# EAGLE library part ATX_CONNECTOR (library 1dah)
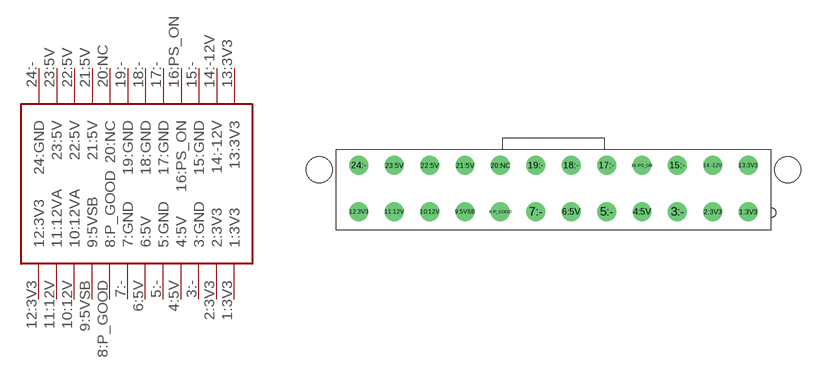
[diagram p51: symbol with the pads of ATX_CONNECTOR; footprint ATX_CONNECTOR]

Designator prefix -

## ATX_CONNECTOR  [ATX_CONNECTOR]
1:3V3  1:3V3
2:3V3  2:3V3
3:-  3:GND
4:5V  4:5V
5:-  5:GND
6:5V  6:5V
7:-  7:GND
8:P_GOOD  8:P_GOOD
9:5VSB  9:5VSB
10:12V  10:12VA
11:12V  11:12VA
12:3V3  12:3V3
13:3V3  13:3V3
14:-12V  14:-12V
15:-  15:GND
16:PS_ON  16:PS_ON
17:-  17:GND
18:-  18:GND
19:-  19:GND
20:NC  20:NC
21:5V  21:5V
22:5V  22:5V
23:5V  23:5V
24:-  24:GND

## Footprint ATX_CONNECTOR (pad centres in mm)
drill 1.5: 1:3V3 23.1,-5.5; 2:3V3 18.9,-5.5; 3:- 14.7,-5.5; 4:5V 10.5,-5.5; 5:- 6.3,-5.5; 6:5V 2.1,-5.5; 7:- -2.1,-5.5; 8:P_GOOD -6.3,-5.5; 9:5VSB -10.5,-5.5; 10:12V -14.7,-5.5; 11:12V -18.9,-5.5; 12:3V3 -23.1,-5.5; 13:3V3 23.1,0; 14:-12V 18.9,0; 15:- 14.7,0; 16:PS_ON 10.5,0; 17:- 6.3,0; 18:- 2.1,0; 19:- -2.1,0; 20:NC -6.3,0; 21:5V -10.5,0; 22:5V -14.7,0; 23:5V -18.9,0; 24:- -23.1,0
hole 3.1 at 27.8,-0.5
hole 3.1 at -27.8,-0.5